# EAGLE library part CY61228EV30 (library CY62128EV30)
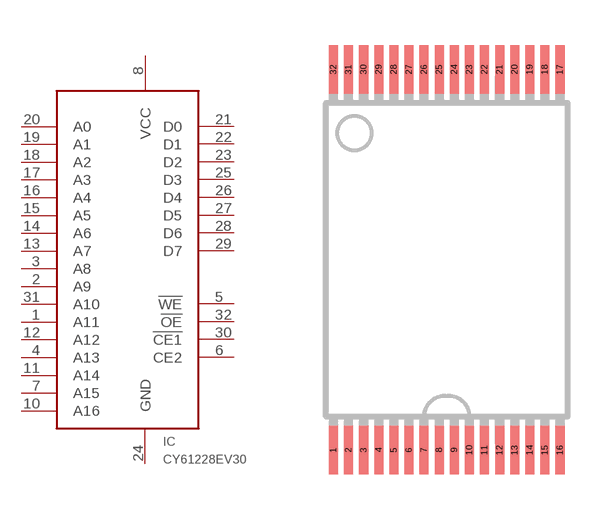
[diagram p0: symbol with the pads of TSOP8X16; footprint TSOP8X16]

Designator prefix IC

## CY61228EV30  [TSOP8X16]
1  A11
2  A9
3  A8
4  A13
5  !WE
6  CE2
7  A15
8  VCC
10  A16
11  A14
12  A12
13  A7
14  A6
15  A5
16  A4
17  A3
18  A2
19  A1
20  A0
21  D0
22  D1
23  D2
24  GND
25  D3
26  D4
27  D5
28  D6
29  D7
30  !CE1
31  A10
32  !OE

## Footprint TSOP8X16 (pad centres in mm)
TSOP32 thin small outline package
smd 0.3 x 1.6: 1 -4,-6.3; 2 -3.5,-6.3; 3 -3,-6.3; 4 -2.5,-6.3; 5 -2,-6.3; 6 -1.5,-6.3; 7 -1,-6.3; 8 -0.5,-6.3; 9 0,-6.3; 10 0.5,-6.3; 11 1,-6.3; 12 1.5,-6.3; 13 2,-6.3; 14 2.5,-6.3; 15 3,-6.3; 16 3.5,-6.3; 17 3.5,6.3; 18 3,6.3; 19 2.5,6.3; 20 2,6.3; 21 1.5,6.3; 22 1,6.3; 23 0.5,6.3; 24 0,6.3; 25 -0.5,6.3; 26 -1,6.3; 27 -1.5,6.3; 28 -2,6.3; 29 -2.5,6.3; 30 -3,6.3; 31 -3.5,6.3; 32 -4,6.3